# EAGLE library part POE-TP-SHIELDED (library ELL-i-Connectors)
Twisted pair Power-over-Ethernet MDI connector, with protective ground 8-wire Ethernet jack, with a protective ground. See the POE-TP device for more information.
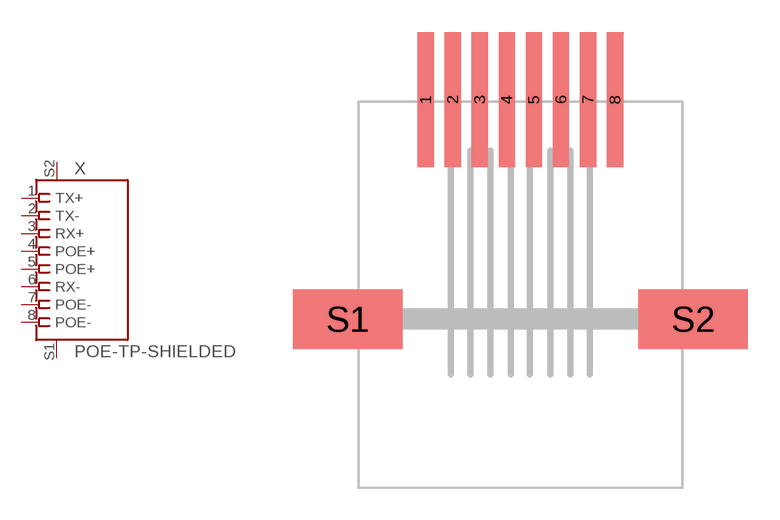
[diagram p15: symbol with the pads of MOLEX-85502-5008; footprint MOLEX-85502-5008]

Designator prefix X

## POE-TP-SHIELDED-RJ45-MOLEX-85502-5008  [MOLEX-85502-5008]
1  TX+  in
2  TX-  in
3  RX+  out
4  POE+  pwr
5  POE+  pwr
6  RX-  out
7  POE-  pwr
8  POE-  pwr
S1  GND  pas
S2  GND  pas

## Footprint MOLEX-85502-5008 (pad centres in mm)
Molex RJ-45 jack SMT 85502-5008 Modular RJ-45 Jack, Right Angle, Low Profile, SMT, 8/8, Gold (Au) Datasheet <http://www.molex.com/elqNow/elqRedir.htm?ref=http://www.molex.com/webdocs/datasheets/pdf/en-us/0855025008_MODULAR_JACKS_PLUG.pdf> Product page <http://www.molex.com/molex/products/datasheet.jsp?part=active/0855025008_MODULAR_JACKS_PLUG.xml>
smd 0.76 x 6.35: 1 -4.445,10.3; 2 -3.175,10.3; 3 -1.905,10.3; 4 -0.635,10.3; 5 0.635,10.3; 6 1.905,10.3; 7 3.175,10.3; 8 4.445,10.3
smd 5.15 x 2.8: S1 -8.1,0; S2 8.1,0